# EAGLE library part GC-1000-DISP (library gc-1000-gps custom lib)
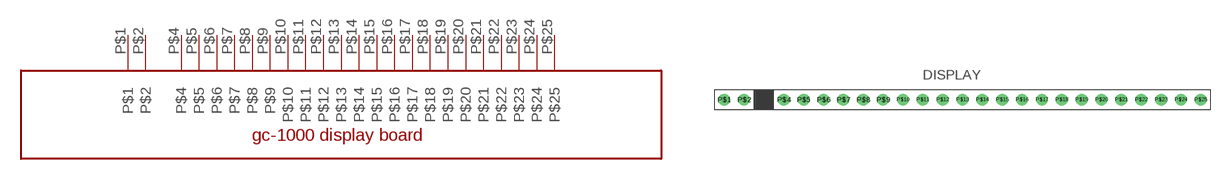
[diagram p3: symbol with the pads of GC-1000-DISP; footprint GC-1000-DISP]

Designator prefix -

## GC-1000-DISP  [GC-1000-DISP]
P$1  P$1
P$2  P$2
P$4  P$4
P$5  P$5
P$6  P$6
P$7  P$7
P$8  P$8
P$9  P$9
P$10  P$10
P$11  P$11
P$12  P$12
P$13  P$13
P$14  P$14
P$15  P$15
P$16  P$16
P$17  P$17
P$18  P$18
P$19  P$19
P$20  P$20
P$21  P$21
P$22  P$22
P$23  P$23
P$24  P$24
P$25  P$25

## Footprint GC-1000-DISP (pad centres in mm)
drill 1: P$1 -24.13,0; P$2 -21.59,0; P$4 -16.51,0; P$5 -13.97,0; P$6 -11.43,0; P$7 -8.89,0; P$8 -6.35,0; P$9 -3.81,0; P$10 -1.27,0; P$11 1.27,0; P$12 3.81,0; P$13 6.35,0; P$14 8.89,0; P$15 11.43,0; P$16 13.97,0; P$17 16.51,0; P$18 19.05,0; P$19 21.59,0; P$20 24.13,0; P$21 26.67,0; P$22 29.21,0; P$23 31.75,0; P$24 34.29,0; P$25 36.83,0